# Altium integrated library USB_Type_C.IntLib: 3 symbols
Pins are listed as number, name and electrical type; pins without a type are passive.

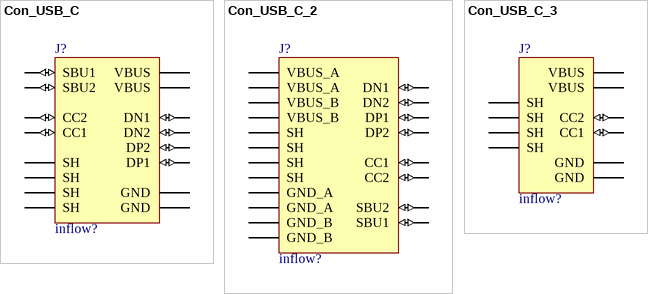
[diagram p0: symbols Con_USB_C to Con_USB_C_3]

## Con_USB_C
designator J?, comment Inflow: inflow?  (hidden comment: 12b)
USB C Female Connector; Rating: Rating?; Value: 12b; Package: SMD; Type: C
footprint HRO_TYPE-C-31-M-12
pins: A1_B12 GND (power), A4_B9 VBUS (power), A5 CC1 (io), A6 DP1 (io), A7 DN1 (io), A8 SBU1 (io), B1_A12 GND (power), B4_A9 VBUS (power), B5 CC2 (io), B6 DP2 (io), B7 DN2 (io), B8 SBU2 (io), S1 SH, S2 SH, S3 SH, S4 SH

## Con_USB_C_2
designator J?, comment Inflow: inflow?  (hidden comment: 16b)
USB C Female Connector; Rating: Rating?; Value: 16b; Package: SMD; Type: C
footprint VALCON_CSP-USC16-TR
pins: A1 GND_A (power), A4 VBUS_A (power), A5 CC1 (io), A6 DP1 (io), A7 DN1 (io), A8 SBU1 (io), A9 VBUS_A (power), A12 GND_A (power), B1 GND_B (power), B4 VBUS_B (power), B5 CC2 (io), B6 DP2 (io), B7 DN2 (io), B8 SBU2 (io), B9 VBUS_B (power), B12 GND_B (power), S1 SH (power), S2 SH (power), S3 SH (power), S4 SH (power)

## Con_USB_C_3
designator J?, comment Inflow: inflow?  (hidden comment: 6b)
USB C Female Connector; Rating: Rating?; Value: 6b; Package: SMD; Type: C
footprint GCT_USB4125-GF-A-0190_REVA2
pins: A5 CC1 (io), A9 VBUS (power), A12 GND (power), B5 CC2 (io), B9 VBUS (power), B12 GND (power), S1 SH, S2 SH, S3 SH, S4 SH